# EAGLE library part ADUM1200 (library Zoli2_2015-01-28)
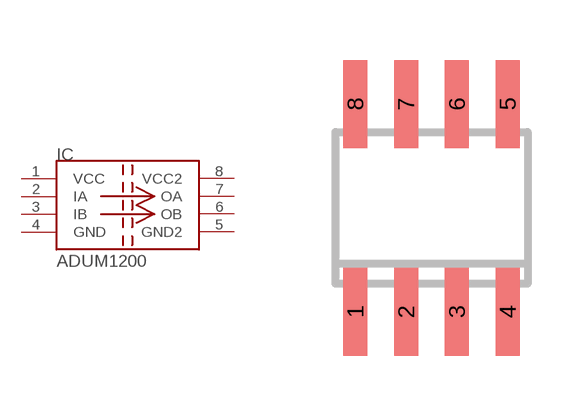
[diagram p49: symbol with the pads of SO8; footprint SO8]

Designator prefix IC

## ADUM1200  [SO8]
1  VCC  pwr
2  IA  in
3  IB  in
4  GND  pwr
5  GND2  pwr
6  OB  out
7  OA  out
8  VCC2  pwr

## Footprint SO8 (pad centres in mm)
smd 0.6 x 2.2: 1 -1.905,-2.6; 2 -0.635,-2.6; 3 0.635,-2.6; 4 1.905,-2.6; 5 1.905,2.6; 6 0.635,2.6; 7 -0.635,2.6; 8 -1.905,2.6